# Altium schematic symbol library MOSFET DUAL P N SOT-23-6.Schlib: 1 symbol
Pins are listed as number, name and electrical type; pins without a type are passive.

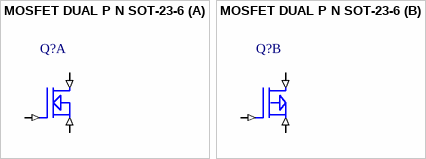
[diagram p0: symbol MOSFET DUAL P N SOT-23-6]

## MOSFET DUAL P N SOT-23-6
designator Q?
MOSFET, Dual
part A pins: 3 DRAIN (in), 4 SOURCE (in), 5 GATE (in)
part B pins: 1 SOURCE (in), 2 GATE (in), 6 DRAIN (in)
1 alternate drawing of the same symbol